# Altium schematic symbol library BC846BWT1.Schlib: 1 symbol
Pins are listed as number, name and electrical type; pins without a type are passive.

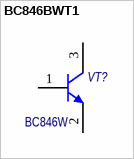
[diagram p0: symbol BC846BWT1]

## BC846BWT1
designator VT?  Наименование: BC846W  (hidden comment: BC846BWT1)
General Purpose Transistor, NPN Silicon, 3-Pin SC70, Tape and Reel; Manufacturer: On Semiconductor; fT Min (MHz): 100; IC Continuous (A): 0.1; Note1: 0; Назначение: Транзистор NPN; Потребление, Вт: 0,01; PackageDescription: 3-Pin Small Outline Transistor, Body 2 x 1.25 mm, Pitch 0.65 mm; PackageVersion: Rev. N, 11/2008; ComponentLink3URL: http://www.onsemi.cn/pub_link/Collateral/419-04.PDF; Polarity: NPN; ComponentLink2Description: Datasheet; Mounting Technology: Surface Mount; ComponentLink3Description: Package Specification; PartNumber: BC846BWT1; RoHS: FALSE; ComponentLink1URL: http://www.onsemi.com/; ComponentLink2URL: http://www.onsemi.cn/pub_link/Collateral/BC846AWT1-D.PDF; Packing: Tape and Reel; PackageReference: SC-70-3-419-04; DatasheetVersion: Rev. 9; ComponentLink1Description: Manufacturer URL
footprint SOT-323 (SC-70) (SOT23, 3-Leads, Body 2x1.25mm, Pitch 0.65mm)
footprint SOT-23
pins: 1 B, 2 E, 3 C